# Altium schematic symbol library LTST-C190KGKT.SchLib: 1 symbol
Pins are listed as number, name and electrical type; pins without a type are passive.

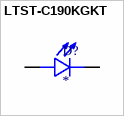
[diagram p0: symbol LTST-C190KGKT]

## LTST-C190KGKT
designator D?
LED; SMD; 0603; Green; 18-180mcd; 1.6x0.8x0.8mm; 130Â°; 1.6Ă·2.4V; 20mA <a href="https://pricing.snapeda.com/parts/LTST-C190KGKT/Lite-On%20Inc./view-part?ref=eda">Check availability</a>; MF: {'manufacturer': u'Lite-On Electronics'}; Package: None; Price: None; Value: *; MP: LTST-C190KGKT; Availability: Unavailable
footprint LEDC1608X35N
pins: A, C